# EAGLE library part NANO-40 (library basicmicro)
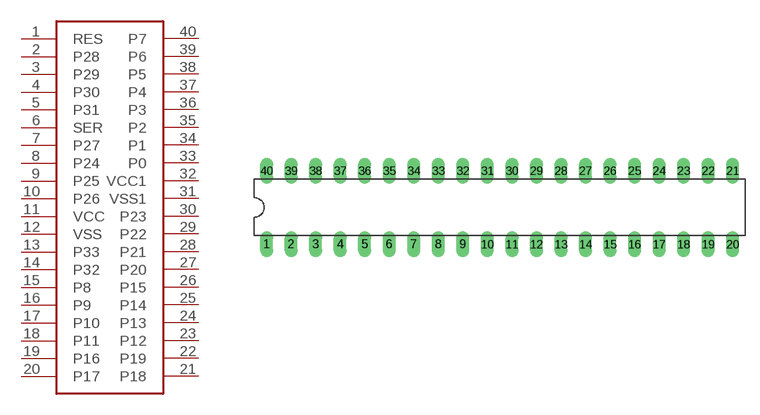
[diagram p10: symbol with the pads of DIL40; footprint DIL40]

Designator prefix -

## NANO-40  [DIL40]
1  RES  pwr
2  P28
3  P29
4  P30
5  P31
6  SER  pwr
7  P27
8  P24
9  P25
10  P26
11  VCC  pwr
12  VSS  pwr
13  P33
14  P32
15  P8
16  P9
17  P10
18  P11
19  P16
20  P17
21  P18
22  P19
23  P12
24  P13
25  P14
26  P15
27  P20
28  P21
29  P22
30  P23
31  VSS1  pwr
32  VCC1  pwr
33  P0
34  P1
35  P2
36  P3
37  P4
38  P5
39  P6
40  P7

## Footprint DIL40 (pad centres in mm)
drill 0.813 long: 1 -24.13,-3.81; 2 -21.59,-3.81; 3 -19.05,-3.81; 4 -16.51,-3.81; 5 -13.97,-3.81; 6 -11.43,-3.81; 7 -8.89,-3.81; 8 -6.35,-3.81; 9 -3.81,-3.81; 10 -1.27,-3.81; 11 1.27,-3.81; 12 3.81,-3.81; 13 6.35,-3.81; 14 8.89,-3.81; 15 11.43,-3.81; 16 13.97,-3.81; 17 16.51,-3.81; 18 19.05,-3.81; 19 21.59,-3.81; 20 24.13,-3.81; 21 24.13,3.81; 22 21.59,3.81; 23 19.05,3.81; 24 16.51,3.81; 25 13.97,3.81; 26 11.43,3.81; 27 8.89,3.81; 28 6.35,3.81; 29 3.81,3.81; 30 1.27,3.81; 31 -1.27,3.81; 32 -3.81,3.81; 33 -6.35,3.81; 34 -8.89,3.81; 35 -11.43,3.81; 36 -13.97,3.81; 37 -16.51,3.81; 38 -19.05,3.81; 39 -21.59,3.81; 40 -24.13,3.81